# Altium footprint library PcbLib1.PcbLib: 3 footprints
Each footprint in its own frame and in the unit in brackets; x right, y up, seen from the top. Pads: shape width x height; smd on the part's side, far side on the other; paste and mask are expansions set on the pad; w line width, h text height; cw(c..) or ccw(c..) is an arc to the next point about the centre after c.
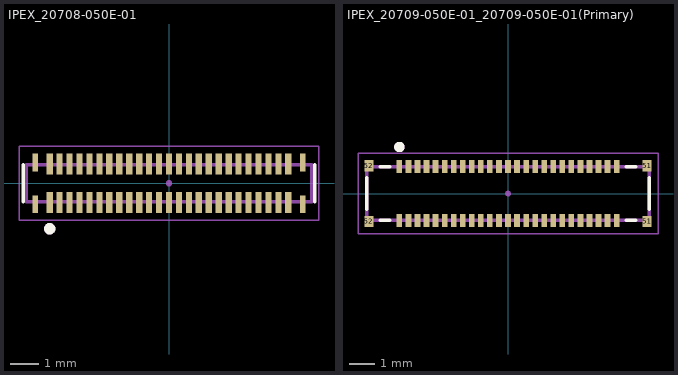
[diagram p0: the footprints below, top view; thin cyan lines are the x and y axes]

## IPEX_20708-050E-01 [mm]
pads (54):
  rect 0.22x0.745 smd: 1(-4.2,-0.677) 2(-4.2,0.677) 3(-3.85,-0.677) 4(-3.85,0.677) 5(-3.5,-0.677) 6(-3.5,0.677) 7(-3.15,-0.677) 8(-3.15,0.677) 9(-2.8,-0.677) 10(-2.8,0.677) 11(-2.45,-0.677) 12(-2.45,0.677) 13(-2.1,-0.677) 14(-2.1,0.677) 15(-1.75,-0.677) 16(-1.75,0.677) 17(-1.4,-0.677) 18(-1.4,0.677) 19(-1.05,-0.677) 20(-1.05,0.677) 21(-0.7,-0.677) 22(-0.7,0.677) 23(-0.35,-0.677) 24(-0.35,0.677) 25(0,-0.677) 26(0,0.677) 27(0.35,-0.677) 28(0.35,0.677) 29(0.7,-0.677) 30(0.7,0.677) 31(1.05,-0.677) 32(1.05,0.677) 33(1.4,-0.677) 34(1.4,0.677) 35(1.75,-0.677) 36(1.75,0.677) 37(2.1,-0.677) 38(2.1,0.677) 39(2.45,-0.677) 40(2.45,0.677) 41(2.8,-0.677) 42(2.8,0.677) 43(3.15,-0.677) 44(3.15,0.677) 45(3.5,-0.677) 46(3.5,0.677) 47(3.85,-0.677) 48(3.85,0.677) 49(4.2,-0.677) 50(4.2,0.677)
  rect 0.2x0.63 smd: 51(4.71,-0.735) 51(4.71,0.735) 52(-4.71,-0.735) 52(-4.71,0.735)
Top Overlay:
  circle w0.2: c-4.2,-1.6 r0.1
  lines w0.127: -5.13,-0.65 -5.13,0.65 ; 5.13,-0.65 5.13,0.65
Top Paste:
  drawing of 54 lines, arcs and shapes, not listed
Top Solder:
  drawing of 54 lines, arcs and shapes, not listed
Mechanical 13:
  circle w0.127: c0,0 r0.05
  circle w0.2: c-4.2,-1.6 r0.1
  lines w0.127: -5.03,-0.65 -5.03,0.65 5.03,0.65 5.03,-0.65 -5.03,-0.65
Mechanical 15:
  lines w0.05: -5.28,-1.3 -5.28,1.3 5.28,1.3 5.28,-1.3 -5.28,-1.3
3D body "20708-050E-01--3DModel-STEP-231308.STEP": height 0.56, standoff 0, extent -5.03,-0.9 5.03,0.9

## IPEX_20709-050E-01_20709-050E-01(Primary) [mm]
pads (54):
  rect 0.22x0.51 smd: 1(-4.2,1.045) 2(-4.2,-1.045) 3(-3.85,1.045) 4(-3.85,-1.045) 5(-3.5,1.045) 6(-3.5,-1.045) 7(-3.15,1.045) 8(-3.15,-1.045) 9(-2.8,1.045) 10(-2.8,-1.045) 11(-2.45,1.045) 12(-2.45,-1.045) 13(-2.1,1.045) 14(-2.1,-1.045) 15(-1.75,1.045) 16(-1.75,-1.045) 17(-1.4,1.045) 18(-1.4,-1.045) 19(-1.05,1.045) 20(-1.05,-1.045) 21(-0.7,1.045) 22(-0.7,-1.045) 23(-0.35,1.045) 24(-0.35,-1.045) 25(0,1.045) 26(0,-1.045) 27(0.35,1.045) 28(0.35,-1.045) 29(0.7,1.045) 30(0.7,-1.045) 31(1.05,1.045) 32(1.05,-1.045) 33(1.4,1.045) 34(1.4,-1.045) 35(1.75,1.045) 36(1.75,-1.045) 37(2.1,1.045) 38(2.1,-1.045) 39(2.45,1.045) 40(2.45,-1.045) 41(2.8,1.045) 42(2.8,-1.045) 43(3.15,1.045) 44(3.15,-1.045) 45(3.5,1.045) 46(3.5,-1.045) 47(3.85,1.045) 48(3.85,-1.045) 49(4.2,1.045) 50(4.2,-1.045)
  rect 0.35x0.44 smd: 51(5.375,-1.08) 51(5.375,1.08) 52(-5.375,-1.08) 52(-5.375,1.08)
Top Overlay:
  circle w0.2: c-4.2,1.8 r0.1
  lines w0.127: -5.46,-0.61 -5.46,0.61 ; -4.95,-1.03 -4.56,-1.03 ; -4.95,1.03 -4.56,1.03 ; 4.56,-1.03 4.95,-1.03 ; 4.56,1.03 4.95,1.03 ; 5.46,-0.61 5.46,0.61
Top Paste:
  drawing of 54 lines, arcs and shapes, not listed
Top Solder:
  drawing of 54 lines, arcs and shapes, not listed
Mechanical 13:
  circle w0.127: c0,0 r0.05
  circle w0.2: c-4.2,1.8 r0.1
  circle w0.2: c-4.2,1.8 r0.1
  lines w0.127: -5.46,-1.03 5.46,-1.03 ; -5.46,-1.03 -5.46,1.03 ; -5.46,-1.03 5.46,-1.03 ; -5.46,-1.03 -5.46,1.03 ; -5.46,1.03 5.46,1.03 ; -5.46,1.03 5.46,1.03 ; 5.46,-1.03 5.46,1.03 ; 5.46,-1.03 5.46,1.03
Mechanical 15:
  lines w0.05: -5.8,-1.55 5.8,-1.55 5.8,1.55 -5.8,1.55 -5.8,-1.55
3D body "20709-050E-01--3DModel-STEP-231308.STEP": height 0.67, standoff 0, extent -5.46,-1.15 5.46,1.15

## PCBComponent_1 [mm]